# Altium schematic symbol library STMSymbolLib.SchLib: 16 symbols
Pins are listed as number, name and electrical type; pins without a type are passive.

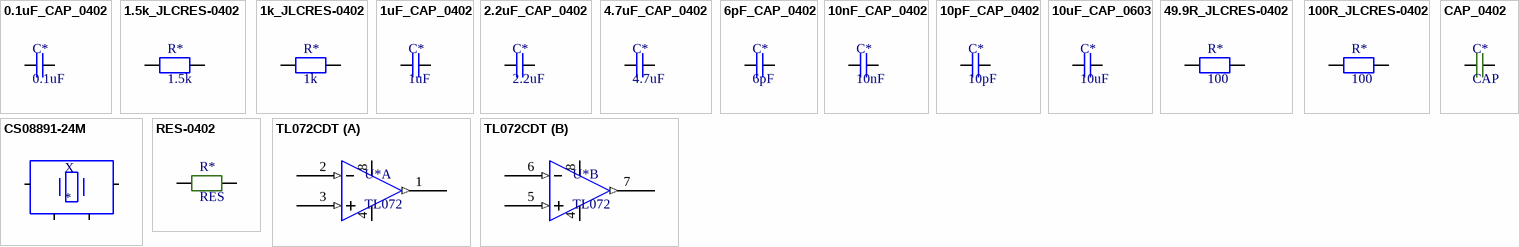
[diagram p0: symbols 0.1uF_CAP_0402 to TL072CDT]

## 0.1uF_CAP_0402
designator C*, comment 0.1uF
Capacitor 0402 - 0.1uF +-/10% / 16V; Manufacturer: Samsung Electro-Mechanics; MPN: CL05B104KO5NNNC; LCSC: C1525
footprint CAPC_0402_1005X55N (Chip Capacitor, 2-Leads, Body 1.00x0.50mm, IPC Medium Density)
pins: ?1, ?2

## 1.5k_JLCRES-0402
designator R*, comment 1.5k
Resistor 0402 - 1.5k; Manufacturer: *; MPN: *; LCSC: C25867
footprint RESC_0402_1005X40N (Chip Resistor, 2-Leads, Body 1.00x0.50mm, IPC Medium Density)
pins: ?1, ?2

## 1k_JLCRES-0402
designator R*, comment 1k
Resistor 0402 - 1k; Manufacturer: UNI-ROYAL(Uniroyal Elec); MPN: 0402WGF1001TCE; LCSC: C11702
footprint RESC_0402_1005X40N (Chip Resistor, 2-Leads, Body 1.00x0.50mm, IPC Medium Density)
pins: ?1, ?2

## 1uF_CAP_0402
designator C*, comment 1uF
Capacitor 0402 - 1uF +-/10% / 25V; Manufacturer: Samsung Electro-Mechanics; MPN: CL05A105KA5NQNC; LCSC: C52923
footprint CAPC_0402_1005X55N (Chip Capacitor, 2-Leads, Body 1.00x0.50mm, IPC Medium Density)
pins: ?1, ?2

## 2.2uF_CAP_0402
designator C*, comment 2.2uF
Capacitor 0402 - 2.2uF +-/10% / 25V; Manufacturer: Samsung Electro-Mechanics; MPN: CL05A225MQ5NSNC; LCSC: C12530
footprint CAPC_0402_1005X55N (Chip Capacitor, 2-Leads, Body 1.00x0.50mm, IPC Medium Density)
pins: ?1, ?2

## 4.7uF_CAP_0402
designator C*, comment 4.7uF
Capacitor 0402 - 4.7uF +-/20% / 10V; Manufacturer: Samsung Electro-Mechanics; MPN: CL05A475MP5NRNC; LCSC: C23733
footprint CAPC_0402_1005X55N (Chip Capacitor, 2-Leads, Body 1.00x0.50mm, IPC Medium Density)
pins: ?1, ?2

## 6pF_CAP_0402
designator C*, comment 6pF
Capacitor 0402 - 6pF +-/10% / 50V - C0G; Manufacturer: FH (Guangdong Fenghua Advanced Tech); MPN: 0402CG6R0C500NT; LCSC: C1575
footprint CAPC_0402_1005X55N (Chip Capacitor, 2-Leads, Body 1.00x0.50mm, IPC Medium Density)
pins: ?1, ?2

## 10nF_CAP_0402
designator C*, comment 10nF
Capacitor 0402 - 10nF +-/10% / 25V; Manufacturer: Samsung Electro-Mechanics; MPN: CL05B103KB5NNNC; LCSC: C15195
footprint CAPC_0402_1005X55N (Chip Capacitor, 2-Leads, Body 1.00x0.50mm, IPC Medium Density)
pins: ?1, ?2

## 10pF_CAP_0402
designator C*, comment 10pF
Capacitor 0402 - 10pF +-/10% / 25V - C0G; Manufacturer: Samsung Electro-Mechanics; MPN: CL05C100JB5NNNC; LCSC: C32949
footprint CAPC_0402_1005X55N (Chip Capacitor, 2-Leads, Body 1.00x0.50mm, IPC Medium Density)
pins: ?1, ?2

## 10uF_CAP_0603
designator C*, comment 10uF
Capacitor 0603 - 0.1uF +-/10% / 25V; Manufacturer: Samsung Electro-Mechanics; MPN: CL10A106MA8NRNC; LCSC: C96446
footprint RESC_0603_1608X55N (Chip Resistor, 2-Leads, Body 1.60x0.80mm, IPC Medium Density)
pins: ?1, ?2

## 49.9R_JLCRES-0402
designator R*, comment 100
Resistor 0402 - 49.9R; Manufacturer: *; MPN: *; LCSC: C25120
footprint RESC_0402_1005X40N (Chip Resistor, 2-Leads, Body 1.00x0.50mm, IPC Medium Density)
pins: ?1, ?2

## 100R_JLCRES-0402
designator R*, comment 100
Resistor 0402 - 100R; Manufacturer: *; MPN: *; LCSC: C25076
footprint RESC_0402_1005X40N (Chip Resistor, 2-Leads, Body 1.00x0.50mm, IPC Medium Density)
pins: ?1, ?2

## CAP_0402
designator C*, comment CAP
Capacitor 0402 - Generic; Manufacturer: *; MPN: *; LCSC: *
footprint CAPC_0402_1005X55N (Chip Capacitor, 2-Leads, Body 1.00x0.50mm, IPC Medium Density)
pins: ?1, ?2

## CS08891-24M
designator X
CRYSTAL 24.0000MHZ 6PF SMD
footprint 4 SMD - No Lead
pins: ?1, ?2 (power), ?3, ?4 (power)

## RES-0402
designator R*, comment RES
Resistor 0402 - Generic; Manufacturer: *; MPN: *; LCSC: *
footprint RESC_0402_1005X40N (Chip Resistor, 2-Leads, Body 1.00x0.50mm, IPC Medium Density)
pins: ?1, ?2

## TL072CDT
designator U*, comment TL072
0℃~+70℃ 1.4mA 10uV/℃ 15nV/√Hz@1kHz 16V/us 2 20pA 36V 3mV 40mA 4MHz 5pA 6V~36V 86dB SO-8 FET Input Amplifiers ROHS; Manufacturer: STMicroelectronics; MPN: TL072CDT; LCSC: C6961
footprint SO-8 (SOIC, 8-Leads, Body 4.90x3.90mm, Pitch 1.27mm, IPC Medium Density)
part A pins: 1 (out), 2 (in), 3 (in), 4, 8
part B pins: 4, 5 (in), 6 (in), 7 (out), 8